# Altium schematic symbol library IC. Power supply.SchLib: 47 symbols
Pins are listed as number, name and electrical type; pins without a type are passive.

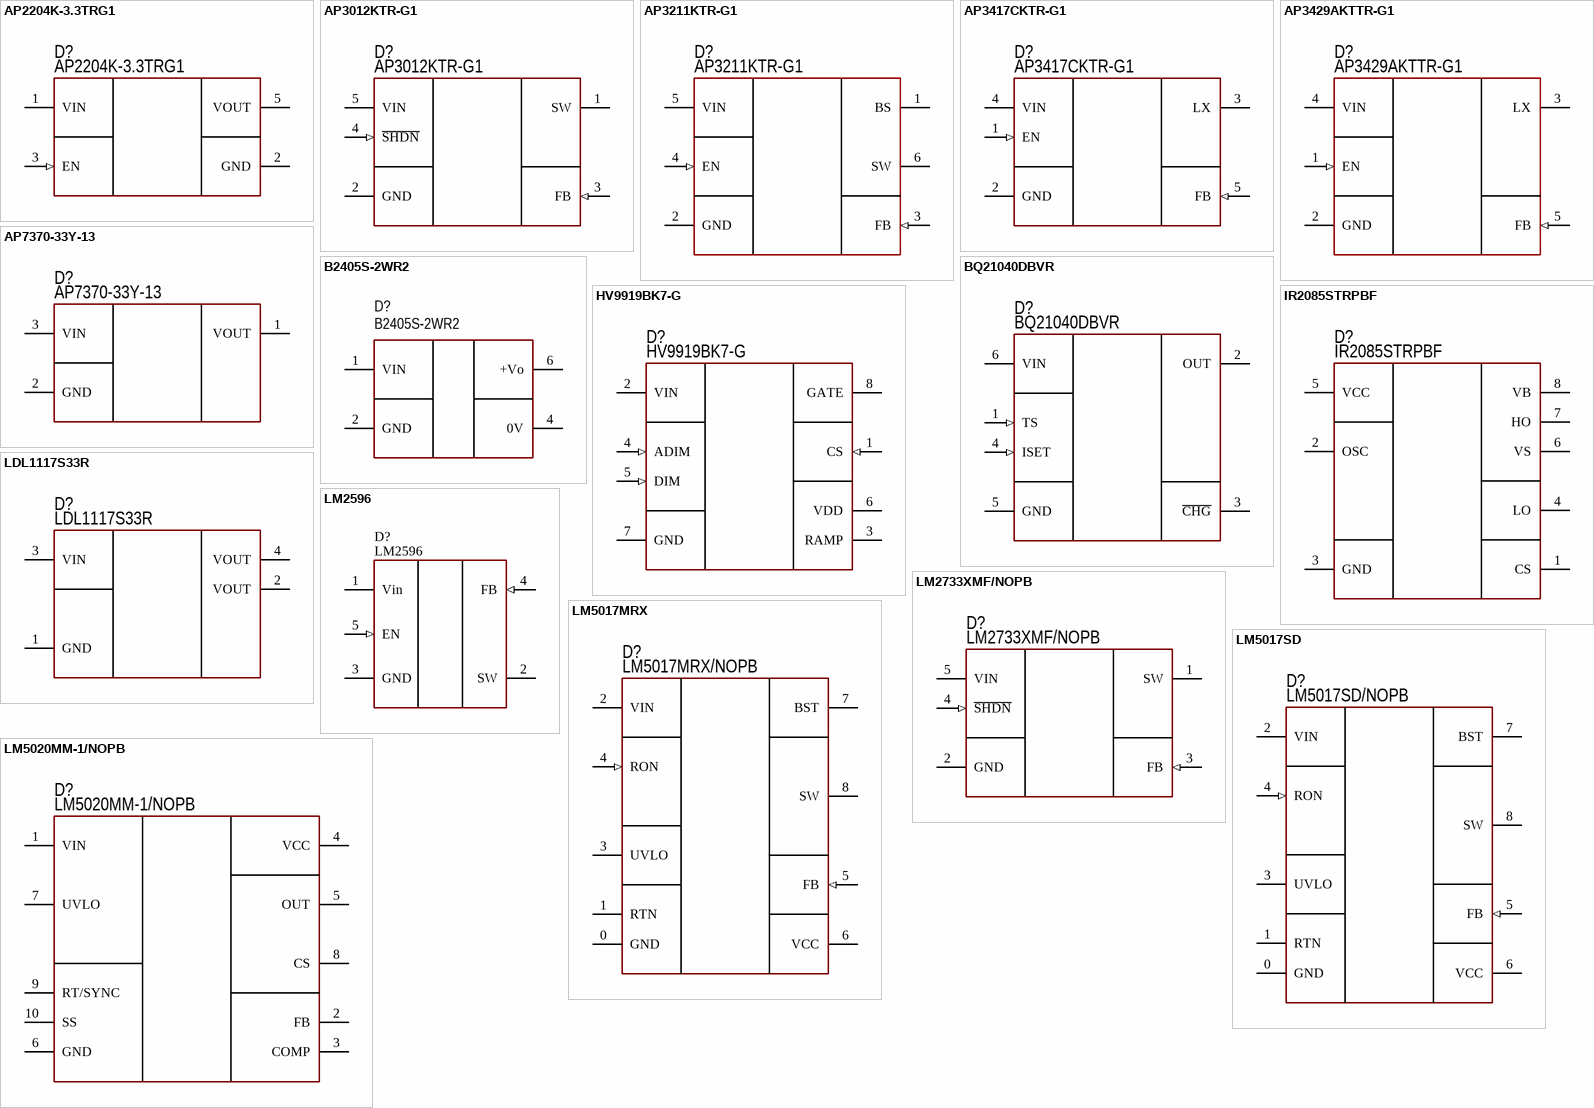
[diagram p0: symbols AP2204K-3.3TRG1 to LM5020MM-1/NOPB]

## AP2204K-3.3TRG1
designator D?  PartNumber: AP2204K-3.3TRG1
Linear voltage regulator; Manufacturer: Diodes Incorporated; ValueManufacturerPartNumber: Linear voltage regulator, input 4...24V, 0.5V, output 3.3V, 0.15A, -40...+85°C, SOT23-6; VoltageInput: input 4...24V; MaxDropout: 0.5V; CurrentOutput: 0.15A; VoltageOutput: output 3.3V; HelpURL: https://www.digikey.com/product-detail/en/diodes-incorporated/AP2204K-3.3TRG1/AP2204K-3.3TRG1DICT-ND/4505288; Package: SOT23-6; ComponentType: Linear voltage regulator; Temperature: -40...+85°C
footprint SOT23-5 (pitch 0.95 mm)
pins: 1 VIN, 2 GND, 3 EN (in), 5 VOUT

## AP3012KTR-G1
designator D?  PartNumber: AP3012KTR-G1
Boost converter; Manufacturer: Diodes Incorporated; ValueManufacturerPartNumber: DC/DC boost converter, input 2.6...16V, 1.5MHz, output 3...29V, 0.5A, -40...+85°C, SOT23-5; VoltageInput: input 2.6...16V; Frequency: 1.5MHz; CurrentOutput: 0.5A; VoltageOutput: output 3...29V; HelpURL: https://www.digikey.com/product-detail/en/diodes-incorporated/AP3012KTR-G1/AP3012KTR-G1DICT-ND/4505297; Package: SOT23-5; ComponentType: DC/DC boost converter; Temperature: -40...+85°C
footprint SOT23-5 (pitch 0.95 mm)
pins: 1 SW, 2 GND, 3 FB (in), 4 ~{SHDN} (in), 5 VIN

## AP3211KTR-G1
designator D?  PartNumber: AP3211KTR-G1
Buck converter; Manufacturer: Diodes Incorporated; ValueManufacturerPartNumber: DC/DC buck converter, input 4.5...18V, 1.4MHz, output 0.81...15V, 1.5A, -40...+85°C, SOT23-6; VoltageInput: input 4.5...18V; Frequency: 1.4MHz; CurrentOutput: 1.5A; VoltageOutput: output 0.81...15V; HelpURL: https://www.digikey.com/product-detail/en/diodes-incorporated/AP3211KTR-G1/AP3211KTR-G1DICT-ND/4505305; Package: SOT23-6; ComponentType: DC/DC buck converter; Temperature: -40...+85°C
footprint SOT23-6 (pitch 0.95 mm)
pins: 1 BS, 2 GND, 3 FB (in), 4 EN (in), 5 VIN, 6 SW

## AP3417CKTR-G1
designator D?  PartNumber: AP3417CKTR-G1
Buck converter; Manufacturer: Diodes Incorporated; ValueManufacturerPartNumber: DC/DC buck converter, input 2.5...5.5V, 1.5MHz, output 0.6...4.95V, 1A, -40...+85°C, SOT23-5; VoltageInput: input 2.5...5.5V; Frequency: 1.5MHz; CurrentOutput: 1A; VoltageOutput: output 0.6...4.95V; HelpURL: https://www.digikey.com/product-detail/en/diodes-incorporated/AP3417CKTR-G1/AP3417CKTR-G1DICT-ND/4505308; Package: SOT23-5; ComponentType: DC/DC buck converter; Temperature: -40...+85°C
footprint SOT23-6 (pitch 0.95 mm)
pins: 1 EN (in), 2 GND, 3 LX, 4 VIN, 5 FB (in)

## AP3429AKTTR-G1
designator D?  PartNumber: AP3429AKTTR-G1
Buck converter; Manufacturer: Diodes Incorporated; ValueManufacturerPartNumber: DC/DC buck converter, input 2.7...5.5V, 1MHz, output 0.6...5V, 2A, -40...+85°C, SOT23-6; VoltageInput: input 2.7...5.5V; Frequency: 1MHz; CurrentOutput: 2A; VoltageOutput: output 0.6...5V; HelpURL: https://www.digikey.com/product-detail/en/diodes-incorporated/AP3429AKTTR-G1/AP3429AKTTR-G1DICT-ND/5359842; Package: SOT23-6; ComponentType: DC/DC buck converter; Temperature: -40...+85°C
footprint SOT23-5 (pitch 0.95 mm)
pins: 1 EN (in), 2 GND, 3 LX, 4 VIN, 5 FB (in)

## AP7370-33Y-13
designator D?  PartNumber: AP7370-33Y-13
Linear voltage regulator; Manufacturer: Diodes; ValueManufacturerPartNumber: Linear voltage regulator, max input 18V, 0.6V, output 3.3V, 300mA, -40...+125°C, SOT-89; VoltageInput: max input 18V; MaxDropout: 0.6V; CurrentOutput: 300mA; VoltageOutput: output 3.3V; HelpURL: https://www.digikey.com/product-detail/en/diodes-incorporated/AP7370-33Y-13/AP7370-33Y-13DICT-ND/10235832; Package: SOT-89; ComponentType: Linear voltage regulator; Temperature: -40...+125°C
footprint SOT89
pins: 1 VOUT (power), 2 GND (power), 3 VIN (power)

## B2405S-2WR2
designator D?
Isolated DC-DC
footprint MOD: B2405S-2WR2
pins: 1 VIN (power), 2 GND (power), 4 0V (power), 6 +Vo (power)

## BQ21040DBVR
designator D?  PartNumber: BQ21040DBVR
Charger; Manufacturer: Texas Instruments; ValueManufacturerPartNumber: Charger li-ion battery, input 4.5...6.25V, output 4.2V, 0.8A, 0...+125°C, SOT23-6; VoltageInput: input 4.5...6.25V; CurrentOutput: 0.8A; VoltageOutput: output 4.2V; HelpURL: https://www.digikey.com/product-detail/en/texas-instruments/BQ21040DBVR/296-47315-1-ND/7688325; Package: SOT23-6; ComponentType: Charger li-ion battery; Temperature: 0...+125°C
footprint SOT23-6 (pitch 0.95 mm)
pins: 1 TS (in), 2 OUT, 3 ~{CHG}, 4 ISET (in), 5 GND, 6 VIN

## HV9919BK7-G
designator D?  PartNumber: HV9919BK7-G
PWM led controller; Manufacturer: Microchip Technology; ValueManufacturerPartNumber: PWM led controller, input 4.5...40V, 2MHz, External switch, Step-Down, -40...+125°C, 8-DFN; VoltageInput: input 4.5...40V; Frequency: 2MHz; TypeConverter: Step-Down; OutputType: External switch; HelpURL: https://www.digikey.com/product-detail/en/microchip-technology/HV9919BK7-G/HV9919BK7-GCT-ND/8538004; Package: 8-DFN; ComponentType: PWM led controller; Temperature: -40...+125°C
footprint 8-DFN (3x3, 0.65 mm) (3x3 mm, pitch 0.65 mm, power pad)
pins: 1 CS (in), 2 VIN, 3 RAMP, 4 ADIM (in), 5 DIM (in), 6 VDD, 7 GND, 8 GATE

## IR2085STRPBF
designator D?  PartNumber: IR2085STRPBF
PWM controller; Manufacturer: Infineon; ValueManufacturerPartNumber: PWM half-bridge controller, supply 10...15V, up to 500kHz, bootstrap 100V, -40...+105°C, 8-SOIC; VoltageInput: supply 10...15V; Frequency: up to 500kHz; OutputType: bootstrap 100V; HelpURL: https://www.digikey.com/product-detail/en/infineon-technologies/IR2085STRPBF/IR2085STRPBFCT-ND/812612; Package: 8-SOIC; ComponentType: PWM half-bridge controller; Temperature: -40...+105°C
footprint 8-SOIC (pitch 1.27 mm)
pins: 1 CS, 2 OSC, 3 GND, 4 LO, 5 VCC, 6 VS, 7 HO, 8 VB

## LDL1117S33R
designator D?  PartNumber: LDL1117S33R
Linear voltage regulator; Manufacturer: STMicroelectronics; ValueManufacturerPartNumber: Linear voltage regulator, input 3.9...18V, 0.6V, output 3.3V, 1.2A, -40...+85°C, SOT223; VoltageInput: input 3.9...18V; MaxDropout: 0.6V; CurrentOutput: 1.2A; VoltageOutput: output 3.3V; HelpURL: https://www.digikey.com/product-detail/en/stmicroelectronics/LDL1117S33R/497-17239-1-ND/7102079; Package: SOT223; ComponentType: Linear voltage regulator; Temperature: -40...+85°C
footprint SOT223 (SOT223, 4-Leads, Body 6,50x7,00mm (avg), Pitch 2,30mm, IPC Medium Density)
pins: 1 GND (power), 2 VOUT (power), 3 VIN (power), 4 VOUT (power)

## LM2596
designator D?
Step-Down Switching / Regulator
footprint TO263-6
pins: 1 Vin (power), 2 SW (power), 3 GND (power), 4 FB (in), 5 EN (in)

## LM2733XMF/NOPB
designator D?  PartNumber: LM2733XMF/NOPB
Boost converter; Manufacturer: Diodes Incorporated; ValueManufacturerPartNumber: DC/DC boost converter, input 2.7...14V, 1.6MHz, output 3...40V, 1.5A, -40…+125, SOT23-5; VoltageInput: input 2.7...14V; Frequency: 1.6MHz; CurrentOutput: 1.5A; VoltageOutput: output 3...40V; HelpURL: https://www.chipdip.ru/product/lm2733xmf-nopb; Package: SOT23-5; ComponentType: DC/DC boost converter; Temperature: -40…+125
footprint SOT23-5 (pitch 0.95 mm)
pins: 1 SW, 2 GND, 3 FB (in), 4 ~{SHDN} (in), 5 VIN

## LM5017MRX
designator D?  PartNumber: LM5017MRX/NOPB
Buck converter; Manufacturer: Texas Instruments; ValueManufacturerPartNumber: DC/DC buck converter, input 7.5...100V, 1MHz, output 1.225...90V, 0.6A, -40...+125°C, 8-SOIC; VoltageInput: input 7.5...100V; Frequency: 1MHz; CurrentOutput: 0.6A; VoltageOutput: output 1.225...90V; HelpURL: https://www.digikey.com/product-detail/en/texas-instruments/LM5017SD-NOPB/LM5017SD-NOPBCT-ND/3137455; Package: 8-SOIC; ComponentType: DC/DC buck converter; Temperature: -40...+125°C
footprint 8-SOIC-PAD (pitch 1.27 mm, power pad)
pins: 0 GND, 1 RTN, 2 VIN, 3 UVLO, 4 RON (in), 5 FB (in), 6 VCC, 7 BST, 8 SW

## LM5017SD
designator D?  PartNumber: LM5017SD/NOPB
Buck converter; Manufacturer: Texas Instruments; ValueManufacturerPartNumber: DC/DC buck converter, input 7.5...100V, 1MHz, output 1.225...90V, 0.6A, -40...+125°C, 8-WSON; VoltageInput: input 7.5...100V; Frequency: 1MHz; CurrentOutput: 0.6A; VoltageOutput: output 1.225...90V; HelpURL: https://www.digikey.com/product-detail/en/texas-instruments/LM5017SD-NOPB/LM5017SD-NOPBCT-ND/3137455; Package: 8-WSON; ComponentType: DC/DC buck converter; Temperature: -40...+125°C
footprint 8-WSON (4x4) (4x4 mm, pitch 0.8 mm, power pad)
pins: 0 GND, 1 RTN, 2 VIN, 3 UVLO, 4 RON (in), 5 FB (in), 6 VCC, 7 BST, 8 SW

## LM5020MM-1/NOPB
designator D?  PartNumber: LM5020MM-1/NOPB
PWM controller; Manufacturer: Texas Instruments; ValueManufacturerPartNumber: PWM controller, supply 13...90V, 1MHz, External switch, -40...+105°C, 10-VSSOP; VoltageInput: supply 13...90V; Frequency: 1MHz; OutputType: External switch; HelpURL: https://www.digikey.com/product-detail/en/texas-instruments/LM5020MM-1-NOPB/LM5020MM-1-NOPBCT-ND/665721; Package: 10-VSSOP; ComponentType: PWM controller; Temperature: -40...+105°C
footprint 10-TSSOP (3x3 mm, pitch 0.5 mm)
pins: 1 VIN, 2 FB, 3 COMP, 4 VCC, 5 OUT, 6 GND, 7 UVLO, 8 CS, 9 RT/SYNC, 10 SS

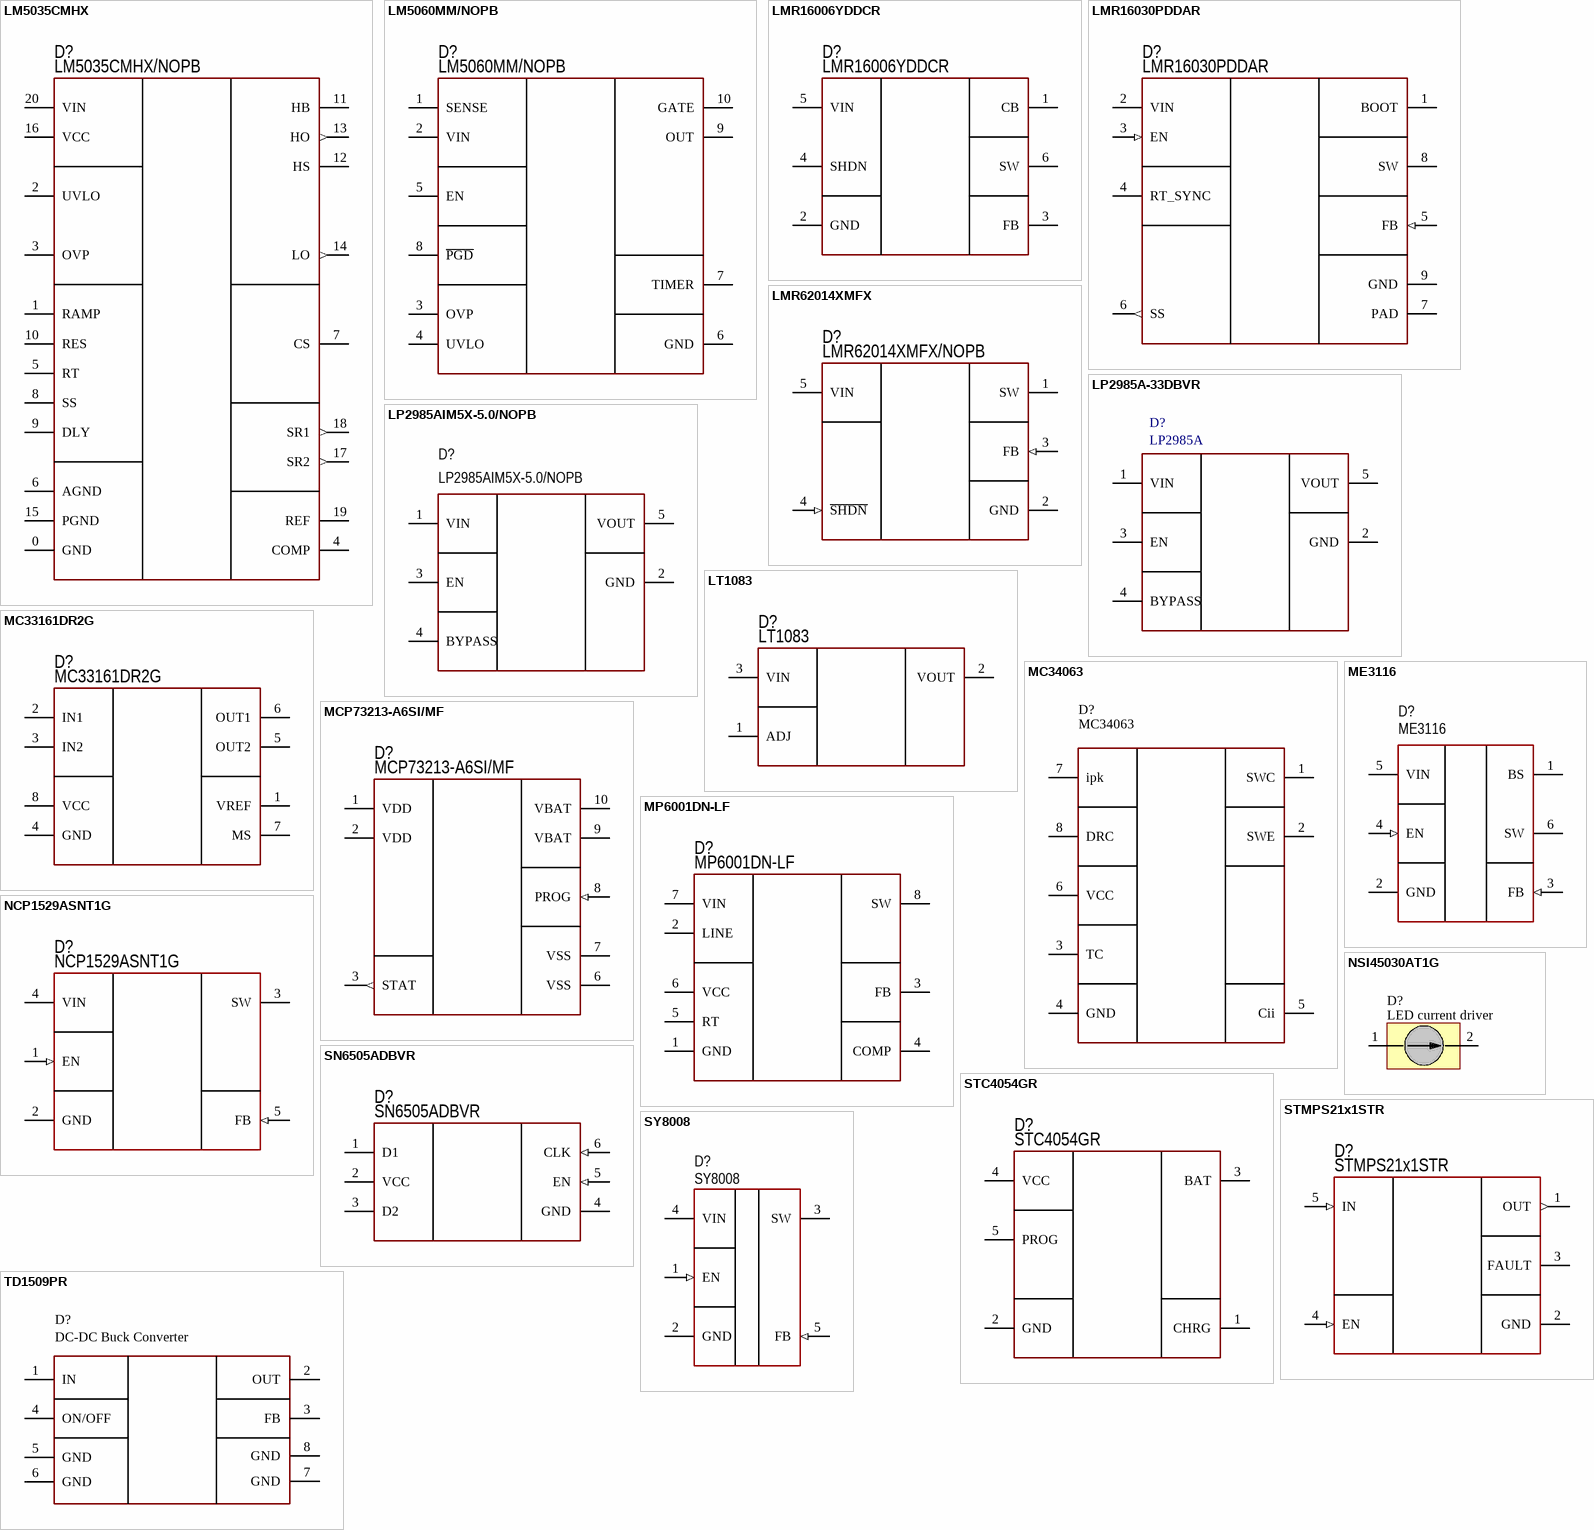
[diagram p1: symbols LM5035CMHX to TD1509PR]

## LM5035CMHX
designator D?  PartNumber: LM5035CMHX/NOPB
PWM controller; Manufacturer: Texas Instruments; ValueManufacturerPartNumber: PWM controller half bridge, supply 13...105V, 2 MHz, Internal driver, -40...+125°C, 20-PowerTSSOP; VoltageInput: supply 13...105V; Frequency: 2 MHz; OutputType: Internal driver; HelpURL: https://www.digikey.com/product-detail/en/texas-instruments/LM5035CMHX-NOPB/296-45545-1-ND/6823175; Package: 20-PowerTSSOP; ComponentType: PWM controller half bridge; Temperature: -40...+125°C
footprint 20-TSSOP-PAD (pitch 0.65 mm, power pad)
pins: 0 GND, 1 RAMP, 2 UVLO, 3 OVP, 4 COMP, 5 RT, 6 AGND, 7 CS, 8 SS, 9 DLY, 10 RES, 11 HB, 12 HS, 13 HO (out), 14 LO (out), 15 PGND, 16 VCC, 17 SR2 (out), 18 SR1 (out), 19 REF, 20 VIN

## LM5060MM/NOPB
designator D?  PartNumber: LM5060MM/NOPB
PWM controller; Manufacturer: Texas Instruments; ValueManufacturerPartNumber: IC power managment, supply 5.5...65V, N-channel, External switch, -40...+125°C, 10-MSOP; VoltageInput: supply 5.5...65V; TypeController: N-channel; OutputType: External switch; HelpURL: https://www.digikey.com/product-detail/en/texas-instruments/LM5060MM-NOPB/296-39024-1-ND/5143071; Package: 10-MSOP; ComponentType: IC power managment; Temperature: -40...+125°C
footprint 10-TSSOP (3x3 mm, pitch 0.5 mm)
pins: 1 SENSE, 2 VIN, 3 OVP, 4 UVLO, 5 EN, 6 GND, 7 TIMER, 8 ~{PGD}, 9 OUT, 10 GATE

## LMR16006YDDCR
designator D?  PartNumber: LMR16006YDDCR
Buck converter; Manufacturer: Texas Instruments; ValueManufacturerPartNumber: DC/DC buck converter, input 4...60V, 2.1MHz, output 0.765...55V, 0.6A, -40...+125°C, SOT23-6; VoltageInput: input 4...60V; Frequency: 2.1MHz; CurrentOutput: 0.6A; VoltageOutput: output 0.765...55V; HelpURL: https://www.digikey.com/product-detail/en/texas-instruments/LMR16006YDDCR/296-40294-1-ND/5178171; Package: SOT23-6; ComponentType: DC/DC buck converter; Temperature: -40...+125°C
footprint SOT23-6 (pitch 0.95 mm)
pins: 1 CB (power), 2 GND (power), 3 FB (power), 4 SHDN (power), 5 VIN (power), 6 SW (power)

## LMR16030PDDAR
designator D?  PartNumber: LMR16030PDDAR
Buck converter; Manufacturer: Texas Instruments; ValueManufacturerPartNumber: DC/DC Step-Down Converter, input 4.3...60V, 2.5MHz, output 0.8...50V, 3A, -40...+125°C, SOT23-6; VoltageInput: input 4.3...60V; Frequency: 2.5MHz; CurrentOutput: 3A; VoltageOutput: output 0.8...50V; HelpURL: https://www.digikey.com/product-detail/en/texas-instruments/LMR16030PDDAR/296-47796-1-ND/8133145; Package: SOT23-6; ComponentType: DC/DC Step-Down Converter; Temperature: -40...+125°C; Supplier 1: LCSC; Supplier Part Number 1: C136648
footprint HSOIC-DDA-8
pins: 1 BOOT, 2 VIN (power), 3 EN (in), 4 RT_SYNC, 5 FB (in), 6 SS (out), 7 PAD (power), 8 SW (power), 9 GND (power)

## LMR62014XMFX
designator D?  PartNumber: LMR62014XMFX/NOPB
Boost converter; Manufacturer: Texas Instruments; ValueManufacturerPartNumber: DC/DC boost converter, input 2.7...14V, 1.5MHz, output 3...20V, 2A, -40...+125°C, SOT23-5; VoltageInput: input 2.7...14V; Frequency: 1.5MHz; CurrentOutput: 2A; VoltageOutput: output 3...20V; HelpURL: https://www.digikey.com/product-detail/en/diodes-incorporated/AP3012KTR-G1/AP3012KTR-G1DICT-ND/4505297; Package: SOT23-5; ComponentType: DC/DC boost converter; Temperature: -40...+125°C
footprint SOT23-5 (pitch 0.95 mm)
pins: 1 SW, 2 GND, 3 FB (in), 4 ~{SHDN} (in), 5 VIN

## LP2985A-33DBVR
designator D?, comment LP2985A
Linear voltage regulator; LCSC_PartNumber: *
footprint SOT23-5 (pitch 0.95 mm)
pins: 1 VIN, 2 GND, 3 EN, 4 BYPASS, 5 VOUT

## LP2985AIM5X-5.0/NOPB
designator D?
Low-Noise Linear voltage regulator
footprint SOT23-5 (pitch 0.95 mm)
pins: 1 VIN, 2 GND, 3 EN, 4 BYPASS, 5 VOUT

## LT1083
designator D?  PartNumber: LT1083
Linear voltage regulator; Manufacturer: Diodes; ValueManufacturerPartNumber: Linear voltage regulator, max input 18V, 0.6V, output 3.3V, 3A, -40...+125°C, SOT-89; VoltageInput: max input 18V; MaxDropout: 0.6V; CurrentOutput: 3A; VoltageOutput: output 3.3V; Package: SOT-89; ComponentType: Linear voltage regulator; Temperature: -40...+125°C
footprint TO220
pins: 1 ADJ (power), 2 VOUT (power), 3 VIN (power)

## MC33161DR2G
designator D?  PartNumber: MC33161DR2G
Supervisor; Manufacturer: ON Semiconductor; ValueManufacturerPartNumber: Multi-voltage supervisor, max supply 40V, Open drain, -40...+105°C, 8-SOIC; VoltageInput: max supply 40V; OutputType: Open drain; HelpURL: https://www.digikey.com/product-detail/en/on-semiconductor/MC33161DR2G/MC33161DR2GOSCT-ND/1139692; Package: 8-SOIC; ComponentType: Multi-voltage supervisor; Temperature: -40...+105°C
footprint 8-SOIC (pitch 1.27 mm)
pins: 1 VREF, 2 IN1, 3 IN2, 4 GND, 5 OUT2, 6 OUT1, 7 MS, 8 VCC

## MC34063
designator D?
Step-Up, Step-Down Positive or Negative Adjustable 1 1.5A (Switch) 100kHz SOIC-8_150mil DC-DC Converters RoHS
footprint 8-SOIC (pitch 1.27 mm)
pins: 1 SWC, 2 SWE, 3 TC, 4 GND, 5 Cii, 6 VCC, 7 ipk, 8 DRC

## MCP73213-A6SI/MF
designator D?  PartNumber: MCP73213-A6SI/MF
Charger; Manufacturer: Microchip Technology; ValueManufacturerPartNumber: Charger  2S li-ion battery, input 8.8...13V, output 8.4V, 1.1A, -40...+85°C, 10-DFN; VoltageInput: input 8.8...13V; CurrentOutput: 1.1A; VoltageOutput: output 8.4V; HelpURL: https://www.digikey.com/products/en?keywords=MCP73213-A6SI%2FMF; Package: 10-DFN; ComponentType: Charger  2S li-ion battery; Temperature: -40...+85°C
footprint 10-DFN (3x3 mm, pitch 0.5 mm, power pad)
pins: 1 VDD, 2 VDD, 3 STAT (out), 6 VSS, 7 VSS, 8 PROG (in), 9 VBAT, 10 VBAT

## ME3116
designator D?
Buck converter
footprint SOT23-6 (pitch 0.95 mm)
pins: 1 BS, 2 GND, 3 FB (in), 4 EN (in), 5 VIN, 6 SW

## MP6001DN-LF
designator D?  PartNumber: MP6001DN-LF
Boost converter; Manufacturer: Monolithic; ValueManufacturerPartNumber: DC/DC boost converter, input 10...100V, 500kHz, output 12...150V, 2A, -40...+85°C, 8-SOIC; VoltageInput: input 10...100V; Frequency: 500kHz; CurrentOutput: 2A; VoltageOutput: output 12...150V; HelpURL: https://www.digikey.com/product-detail/en/monolithic-power-systems-inc/MP6001DN-LF-Z/1589-1700-1-ND/9433466; Package: 8-SOIC; ComponentType: DC/DC boost converter; Temperature: -40...+85°C
footprint 8-SOIC-PAD (pitch 1.27 mm, power pad)
pins: 1 GND (power), 2 LINE (power), 3 FB (power), 4 COMP (power), 5 RT (power), 6 VCC (power), 7 VIN (power), 8 SW (power)

## NCP1529ASNT1G
designator D?  PartNumber: NCP1529ASNT1G
Buck converter; Manufacturer: Diodes Incorporated; ValueManufacturerPartNumber: DC/DC buck converter, input 2.7...5.5V, 1.7MHz, output 0.6...5V, 1A, -40...+85°C, SOT23-5; VoltageInput: input 2.7...5.5V; Frequency: 1.7MHz; CurrentOutput: 1A; VoltageOutput: output 0.6...5V; HelpURL: https://www.chipdip.ru/product/ncp1529asnt1g; Package: SOT23-5; ComponentType: DC/DC buck converter; Temperature: -40...+85°C
footprint SOT23-5 (pitch 0.95 mm)
pins: 1 EN (in), 2 GND, 3 SW, 4 VIN, 5 FB (in)

## NSI45030AT1G
designator D?, comment LED current driver
footprint DIODE: SOD123
pins: 1 11, 2 11

## SN6505ADBVR
designator D?  PartNumber: SN6505ADBVR
Push-pull converter; Manufacturer: Texas Instruments; ValueManufacturerPartNumber: DC/DC push-pull converter, input 2.25...5.5V, 160kHz, External transformer, 1.7A, -55...+125°C, SOT23-6; VoltageInput: input 2.25...5.5V; Frequency: 160kHz; CurrentOutput: 1.7A; VoltageOutput: External transformer; HelpURL: https://www.digikey.com/product-detail/en/texas-instruments/SN6505ADBVR/296-48949-1-ND/8635012; Package: SOT23-6; ComponentType: DC/DC push-pull converter; Temperature: -55...+125°C
footprint SOT23-6 (pitch 0.95 mm)
pins: 1 D1 (power), 2 VCC (power), 3 D2 (power), 4 GND (power), 5 EN (in), 6 CLK (in)

## STC4054GR
designator D?  PartNumber: STC4054GR
Charger; Manufacturer: STMicroelectronics; ValueManufacturerPartNumber: Charger li-ion battery, input 4.25...6.5V, output 4.2V, 0.8A, 0...+125°C, SOT23-5; VoltageInput: input 4.25...6.5V; CurrentOutput: 0.8A; VoltageOutput: output 4.2V; HelpURL: https://lcsc.com/product-detail/PMIC-Battery-Management_STMicroelectronics-STC4054GR_C262930.html; Package: SOT23-5; ComponentType: Charger li-ion battery; Temperature: 0...+125°C
footprint SOT23-5 (pitch 0.95 mm)
pins: 1 CHRG, 2 GND, 3 BAT, 4 VCC, 5 PROG (power)

## STMPS21x1STR
designator D?  PartNumber: STMPS21x1STR
Single channel power switche; Manufacturer: STMicroelectronics; Voltage: 5.5V; CurrentOutput: 500/1000 mA; HelpURL: https://www.st.com/content/st_com/en/products/switches-and-multiplexers/power-load-switches/stmps2151.html; Package: SOT23-5; ComponentType: Enhanced single channel power switche; ValueManufacturerPartNumber: =ComponentType+', '+VoltageInput+', '+Frequency+', '+VoltageOutput+', '+CurrentOutput+', '+Temperature+', '+Package; Temperature: -40...+85°C; Supplier 1: Digi-Key; Supplier Part Number 1: 497-6934-1-ND
footprint SOT23-5 (pitch 0.95 mm)
pins: 1 OUT (out), 2 GND, 3 FAULT, 4 EN (in), 5 IN (in)

## SY8008
designator D?
Buck converter
footprint SOT23-5 (pitch 0.95 mm)
pins: 1 EN (in), 2 GND, 3 SW, 4 VIN, 5 FB (in)

## TD1509PR
designator D?, comment DC-DC Buck Converter
footprint 8-SOIC (pitch 1.27 mm)
pins: 1 IN, 2 OUT, 3 FB, 4 ON/OFF, 5 GND, 6 GND, 7 GND, 8 GND

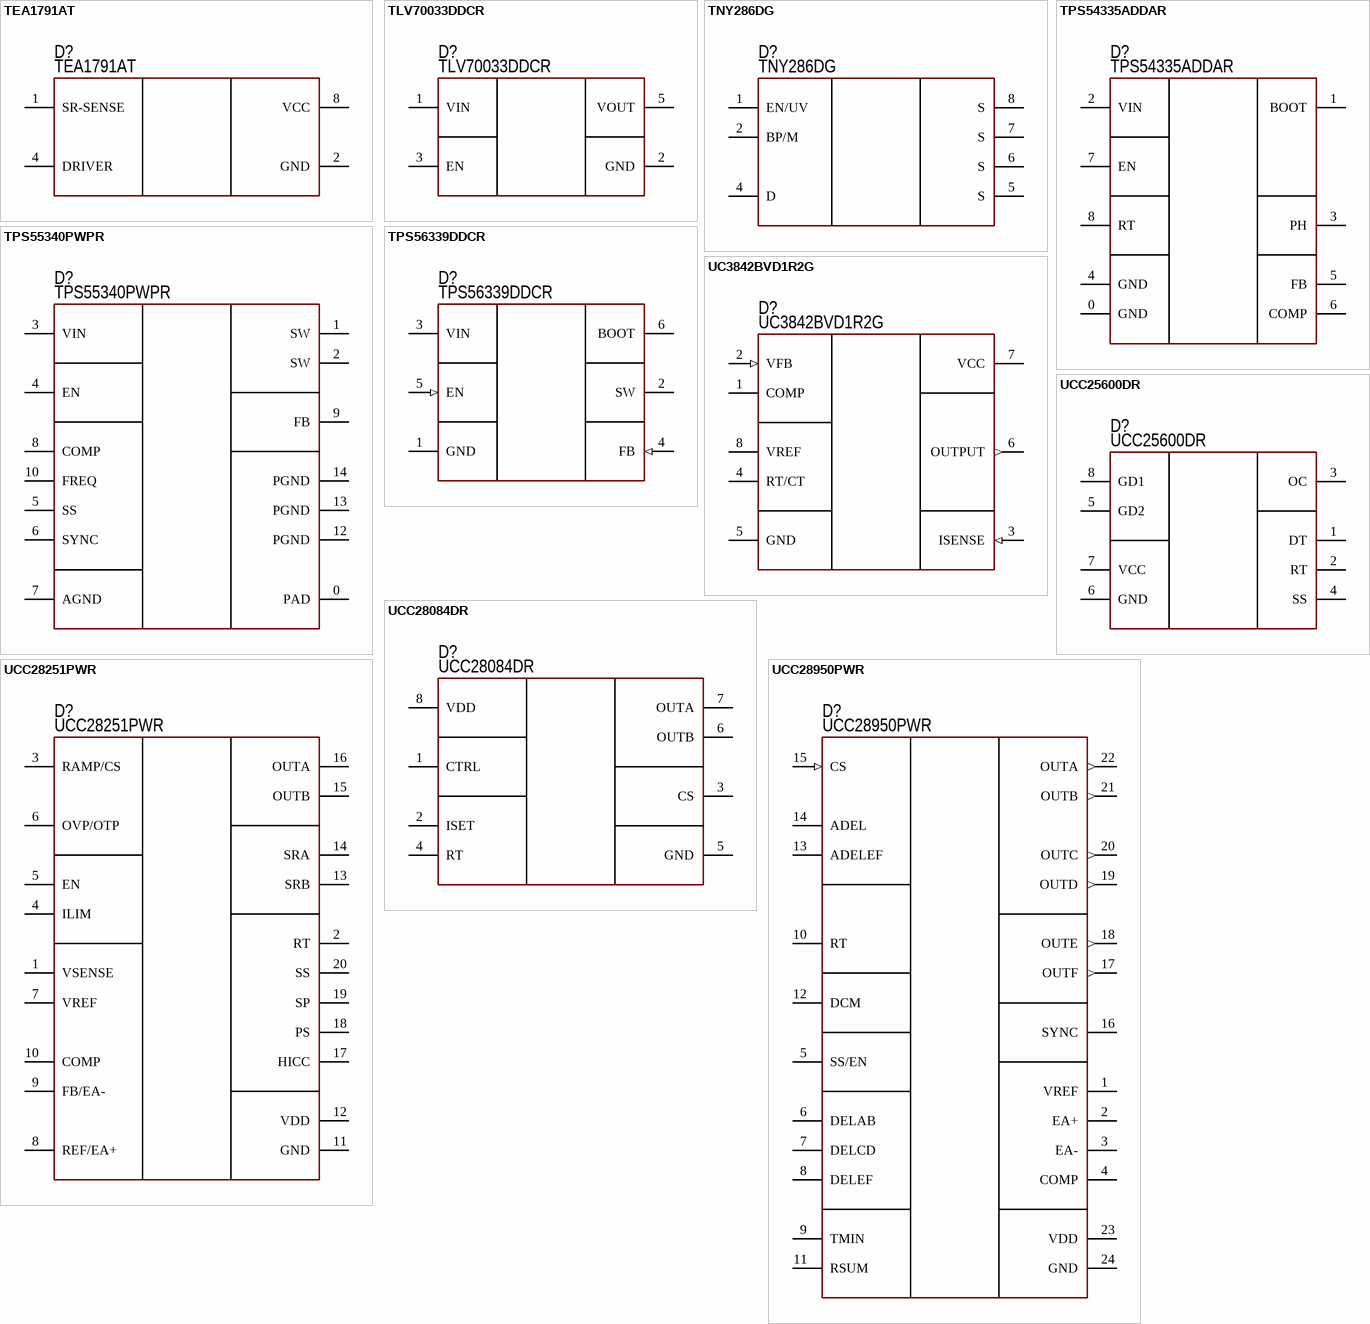
[diagram p2: symbols TEA1791AT to UCC28950PWR]

## TEA1791AT
designator D?  PartNumber: TEA1791AT
Synchronous rectification; Manufacturer: NXP; ValueManufacturerPartNumber: Synchronous rectification, input 8.5...38V, 1MHz, ExternalSwitch, Controller, -40...+150°C, 8-SOIC; VoltageInput: input 8.5...38V; Frequency: 1MHz; TypeConverter: Controller; OutputType: ExternalSwitch; HelpURL: https://www.digikey.com/product-detail/en/nxp-usa-inc/TEA1791AT-N1118/568-5964-1-ND/2531251; Package: 8-SOIC; ComponentType: Synchronous rectification; Temperature: -40...+150°C
footprint 8-DFN (3x3, 0.65 mm) (3x3 mm, pitch 0.65 mm, power pad)
pins: 1 SR-SENSE, 2 GND, 4 DRIVER, 8 VCC

## TLV70033DDCR
designator D?  PartNumber: TLV70033DDCR
Linear voltage regulator; Manufacturer: Texas Instruments; ValueManufacturerPartNumber: Linear voltage regulator, input 5.5V, 0.25V, output 3.3V, 200 mA, -40...+85°C, SOT-23-5; VoltageInput: input 5.5V; MaxDropout: 0.25V; CurrentOutput: 200 mA; VoltageOutput: output 3.3V; HelpURL: https://www.digikey.com/product-detail/en/texas-instruments/TLV70033DDCR/296-27937-1-ND/2440840; Package: SOT-23-5; ComponentType: Linear voltage regulator; Temperature: -40...+85°C
footprint SOT23-5 (pitch 0.95 mm)
pins: 1 VIN, 2 GND, 3 EN, 5 VOUT

## TNY286DG
designator D?  PartNumber: TNY286DG
AC/DC converter; Manufacturer: Power Integrations; ValueManufacturerPartNumber: AC/DC flyback converter, 725V, 124...140kHz, 13W, supply 6.8...25V, -40...+150°C, 8-SOIC; MaxInternalVoltage: 725V; Frequency: 124...140kHz; PowerOutput: 13W; VoltageSupply: supply 6.8...25V; HelpURL: https://www.digikey.com/product-detail/en/power-integrations/TNY286DG/596-1581-ND/4171962; Package: 8-SOIC; ComponentType: AC/DC flyback converter; Temperature: -40...+150°C
footprint IC: TNY286DG
pins: 1 EN/UV, 2 BP/M, 4 D, 5 S, 6 S, 7 S, 8 S

## TPS54335ADDAR
designator D?  PartNumber: TPS54335ADDAR
Buck converter; Manufacturer: Texas Instruments; ValueManufacturerPartNumber: DC/DC buck converter, input 4.5...28V, 50...1500kHz, output 0.8...24V, 3A, -40...+150°C, 8-SO-POWER; VoltageInput: input 4.5...28V; Frequency: 50...1500kHz; CurrentOutput: 3A; VoltageOutput: output 0.8...24V; HelpURL: https://www.digikey.com/product-detail/en/texas-instruments/TPS54335ADRCR/296-44363-1-ND/6110635; Package: 8-SO-POWER; ComponentType: DC/DC buck converter; Temperature: -40...+150°C
footprint 8-SOIC-PAD (pitch 1.27 mm, power pad)
pins: 0 GND, 1 BOOT, 2 VIN, 3 PH, 4 GND, 5 FB, 6 COMP, 7 EN, 8 RT

## TPS55340PWPR
designator D?  PartNumber: TPS55340PWPR
Boost converter; Manufacturer: Texas Instruments; ValueManufacturerPartNumber: DC/DC boost converter, input 2.9...32V, 94...1140 kHz, max output 38V, 2A, -40...+125°C, 14-HTSSOP; VoltageInput: input 2.9...32V; Frequency: 94...1140 kHz; CurrentOutput: 2A; VoltageOutput: max output 38V; HelpURL: https://www.digikey.com/product-detail/en/texas-instruments/TPS55340PWPR/296-39426-1-ND/5143375; Package: 14-HTSSOP; ComponentType: DC/DC boost converter; Temperature: -40...+125°C
footprint 14-TSOP-PAD (pitch 0.65 mm, power pad)
pins: 0 PAD, 1 SW, 2 SW, 3 VIN, 4 EN, 5 SS, 6 SYNC, 7 AGND, 8 COMP, 9 FB, 10 FREQ, 12 PGND, 13 PGND, 14 PGND

## TPS56339DDCR
designator D?  PartNumber: TPS56339DDCR
Sync buck converter; Manufacturer: Texas Instruments; ValueManufacturerPartNumber: DC/DC sync buck converter, input 4.5...24V, 500 kHz, output 0.8...16V, 3A, -40...+125°C, SOT23-6; VoltageInput: input 4.5...24V; Frequency: 500 kHz; CurrentOutput: 3A; VoltageOutput: output 0.8...16V; HelpURL: https://www.digikey.com/product-detail/en/texas-instruments/TPS56339DDCR/296-53568-1-ND/10273298; Package: SOT23-6; ComponentType: DC/DC sync buck converter; Temperature: -40...+125°C
footprint SOT23-6 (pitch 0.95 mm)
pins: 1 GND, 2 SW, 3 VIN, 4 FB (in), 5 EN (in), 6 BOOT

## UC3842BVD1R2G
designator D?  PartNumber: UC3842BVD1R2G
PWM controller; Manufacturer: ON Semiconductor; ValueManufacturerPartNumber: PWM controller, supply 10...30V, 500kHz, External switch, -40...+105°C, 8-SOIC; VoltageInput: supply 10...30V; Frequency: 500kHz; OutputType: External switch; HelpURL: https://www.digikey.com/product-detail/en/on-semiconductor/UC3842BVD1R2G/UC3842BVD1R2GOSCT-ND/5802572; Package: 8-SOIC; ComponentType: PWM controller; Temperature: -40...+105°C
footprint 8-SOIC (pitch 1.27 mm)
pins: 1 COMP, 2 VFB (in), 3 ISENSE (in), 4 RT/CT, 5 GND, 6 OUTPUT (out), 7 VCC, 8 VREF

## UCC25600DR
designator D?  PartNumber: UCC25600DR
PWM controller; Manufacturer: Texas Instruments; ValueManufacturerPartNumber: PWM LLC controller, supply 11.5...18V, 350kHz, External switch, -40...+85°C, 8-SOIC; VoltageInput: supply 11.5...18V; Frequency: 350kHz; OutputType: External switch; HelpURL: https://www.digikey.com/product-detail/en/texas-instruments/UCC25600DR/296-38315-1-ND/4967520; Package: 8-SOIC; ComponentType: PWM LLC controller; Temperature: -40...+85°C
footprint 8-SOIC (pitch 1.27 mm)
pins: 1 DT, 2 RT, 3 OC, 4 SS, 5 GD2, 6 GND, 7 VCC, 8 GD1

## UCC28084DR
designator D?  PartNumber: UCC28084DR
PWM controller; Manufacturer: Texas Instruments; ValueManufacturerPartNumber: PWM controller, supply 4.1...15V, 200kHz, External switch, -40...+85°C, 8-SOIC; VoltageInput: supply 4.1...15V; Frequency: 200kHz; OutputType: External switch; HelpURL: https://www.digikey.com/product-detail/en/texas-instruments/UCC28084DR/296-39532-1-ND/5143475; Package: 8-SOIC; ComponentType: PWM controller; Temperature: -40...+85°C
footprint 8-SOIC (pitch 1.27 mm)
pins: 1 CTRL, 2 ISET, 3 CS, 4 RT, 5 GND, 6 OUTB, 7 OUTA, 8 VDD

## UCC28251PWR
designator D?  PartNumber: UCC28251PWR
PWM controller; Manufacturer: Texas Instruments; ValueManufacturerPartNumber: PWM controller, supply 4.7...17V, 42...945 kHz, PWM signal, -40...+125°C, 20-PowerTSSOP; VoltageInput: supply 4.7...17V; Frequency: 42...945 kHz; OutputType: PWM signal; HelpURL: https://www.digikey.com/product-detail/en/texas-instruments/UCC28251PWR/296-41053-1-ND/5178930; Package: 20-PowerTSSOP; ComponentType: PWM controller; Temperature: -40...+125°C
footprint 20-TSSOP (pitch 0.65 mm)
pins: 1 VSENSE, 2 RT, 3 RAMP/CS, 4 ILIM, 5 EN, 6 OVP/OTP, 7 VREF, 8 REF/EA+, 9 FB/EA-, 10 COMP, 11 GND, 12 VDD, 13 SRB, 14 SRA, 15 OUTB, 16 OUTA, 17 HICC, 18 PS, 19 SP, 20 SS

## UCC28950PWR
designator D?  PartNumber: UCC28950PWR
PWM controller; Manufacturer: Texas Instruments; ValueManufacturerPartNumber: PWM controller, supply 8...17V, 50...1000 kHz, PWM signal, -40...+125°C, 24-TSSOP; VoltageInput: supply 8...17V; Frequency: 50...1000 kHz; OutputType: PWM signal; HelpURL: https://www.digikey.com/product-detail/en/texas-instruments/UCC28950PWR/296-25884-1-ND/2241914; Package: 24-TSSOP; ComponentType: PWM controller; Temperature: -40...+125°C
footprint 24-TSSOP (pitch 0.65 mm)
pins: 1 VREF, 2 EA+, 3 EA-, 4 COMP, 5 SS/EN, 6 DELAB, 7 DELCD, 8 DELEF, 9 TMIN, 10 RT, 11 RSUM, 12 DCM, 13 ADELEF, 14 ADEL, 15 CS (in), 16 SYNC, 17 OUTF (out), 18 OUTE (out), 19 OUTD (out), 20 OUTC (out), 21 OUTB (out), 22 OUTA (out), 23 VDD, 24 GND